# Altium footprint library TO-269AA.PcbLib: 1 footprints
Each footprint in its own frame and in the unit in brackets; x right, y up, seen from the top. Pads: shape width x height; smd on the part's side, far side on the other; paste and mask are expansions set on the pad; w line width, h text height; cw(c..) or ccw(c..) is an arc to the next point about the centre after c.
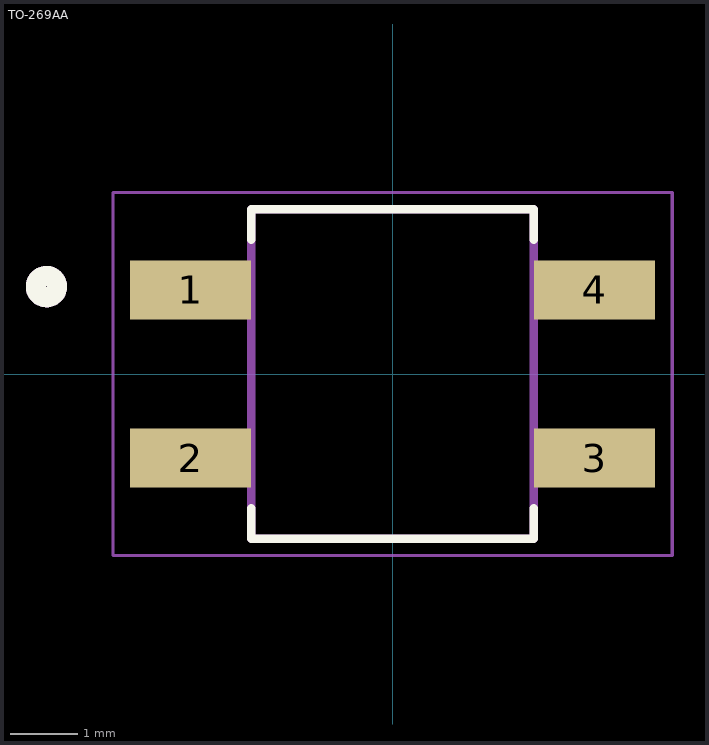
[diagram p0: the footprint, top view; thin cyan lines are the x and y axes]

## TO-269AA [mm]
pads (4):
  rect 1.8x0.88 smd: 1(-3.005,1.25) 2(-3.005,-1.25) 3(3.005,-1.25) 4(3.005,1.25)
Top Overlay:
  circle w0.3: c-5.15,1.3 r0.158
  lines w0.127: -2.1,-2 -2.1,-2.45 2.1,-2.45 2.1,-2 ; -2.1,2 -2.1,2.45 2.1,2.45 2.1,2
Top 3D Body:
  circle w0.3: c-5.15,1.3 r0.158
  lines w0.127: -2.1,-2.45 2.1,-2.45 2.1,2.45 -2.1,2.45 -2.1,-2.45
Top Courtyard:
  lines w0.05: -4.16,-2.7 4.16,-2.7 4.16,2.7 -4.16,2.7 -4.16,-2.7